# EAGLE library part INA3221 (library ARVP 2016)
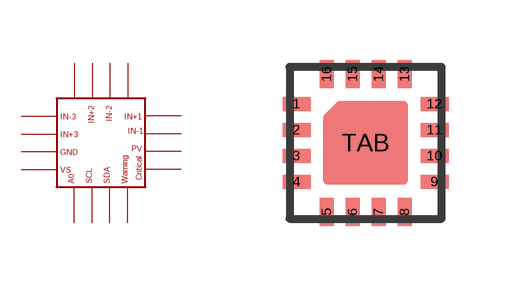
[diagram p0: symbol with the pads of QFN16; footprint QFN16]

Designator prefix -

## INA3221  [QFN16]
1  IN-3
2  IN+3
3  GND
4  VS
5  A0
6  SCL
7  SDA
8  WARN
9  CRIT
10  PV
11  IN-1
12  IN+1
13  TC
14  IN-2
15  IN+2
16  VPU

## Footprint QFN16 (pad centres in mm)
QFN-16 4 x 4 mm Source: Data sheet <http://www.ftdichip.com/Support/Documents/DataSheets/ICs/DS_FT230X.pdf>
smd 0.7 x 0.35: 1 -1.725,0.975; 2 -1.725,0.325; 3 -1.725,-0.325; 4 -1.725,-0.975; 9 1.725,-0.975; 10 1.725,-0.325; 11 1.725,0.325; 12 1.725,0.975
smd 0.35 x 0.7: 5 -0.975,-1.725; 6 -0.325,-1.725; 7 0.325,-1.725; 8 0.975,-1.725; 13 0.975,1.725; 14 0.325,1.725; 15 -0.325,1.725; 16 -0.975,1.725
smd 1 x 1: TAB 0,0